# EAGLE library part TLC555 (library my_mixed)
CMOS 555 timer
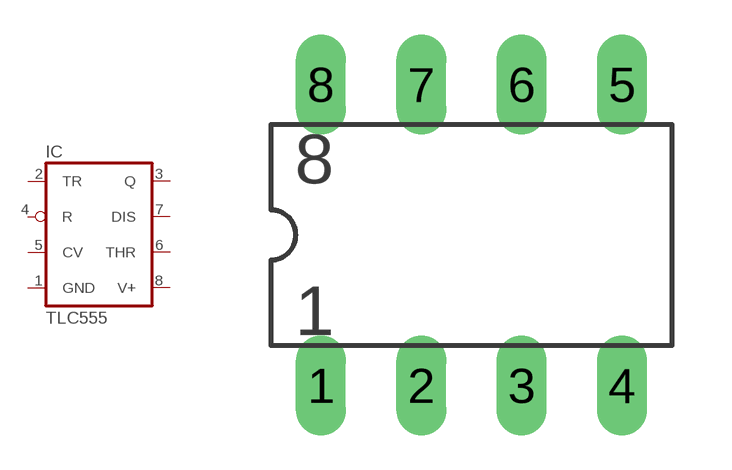
[diagram p15: symbol with the pads of DIL08-2; footprint DIL08-2]

Designator prefix IC

## TLC555DIL08-2  [DIL08-2]
1  GND  pwr
2  TR  in
3  Q  out
4  R  in
5  CV  in
6  THR  in
7  DIS  in
8  V+  pwr

## Footprint DIL08-2 (pad centres in mm)
DIL08-2
drill 0.305 pad 1.27 long: 1 -3.81,-3.81; 2 -1.27,-3.81; 3 1.27,-3.81; 4 3.81,-3.81; 5 3.81,3.81; 6 1.27,3.81; 7 -1.27,3.81; 8 -3.81,3.81